# EAGLE library part ACOUSTICLIB_MICROSD (library LIBRARY)
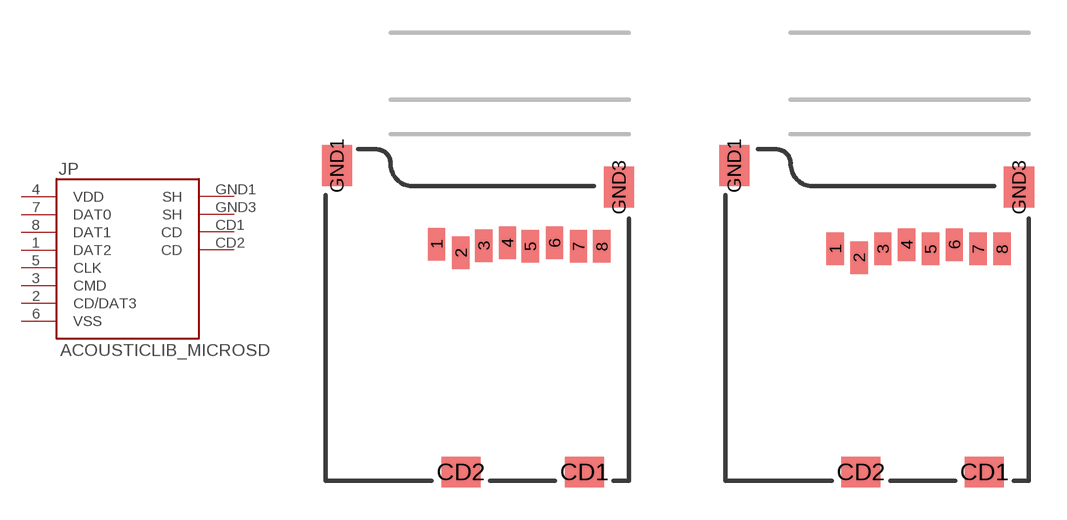
[diagram p4: symbol with the pads of ACOUSTICLIB_MICROSD_1:1; footprints ACOUSTICLIB_MICROSD_1:1, ACOUSTICLIB_MICRO-SD-SOCKET-PP]

Designator prefix JP

## ACOUSTICLIB_MICROSDIMPROVED?  [ACOUSTICLIB_MICROSD_1:1]
1  DAT2
2  CD/DAT3
3  CMD
4  VDD  pwr
5  CLK
6  VSS  pwr
7  DAT0
8  DAT1
CD1  CD
CD2  CD
GND1  SH
GND3  SH

## ACOUSTICLIB_MICROSDOTHER  [ACOUSTICLIB_MICRO-SD-SOCKET-PP]
Pads as for ACOUSTICLIB_MICROSD_1:1

## ACOUSTICLIB_MICROSDWE_PACK  [ACOUSTICLIB_693071010811]
1  DAT2
2  CD/DAT3
3  CMD
4  VDD  pwr
5  CLK
6  VSS  pwr
7  DAT0
8  DAT1
Z1  SH
Z2  SH
Z3  CD
Z4  CD

## Footprint ACOUSTICLIB_MICROSD_1:1 (pad centres in mm)
smd 0.8 x 1.5: 1 5.096,10.919; 2 6.218,10.519; 3 7.274,10.853; 4 8.367,10.982; 5 9.421,10.828; 6 10.539,10.973; 7 11.648,10.819; 8 12.721,10.819
smd 1.8 x 1.4: CD1 11.92,0.4; CD2 6.22,0.4
smd 1.4 x 1.9: GND1 0.497,14.55; GND3 13.52,13.55

## Footprint ACOUSTICLIB_MICRO-SD-SOCKET-PP (pad centres in mm)
smd 0.8 x 1.5: 1 -8.94,10.7; 2 -7.84,10.3; 3 -6.74,10.7; 4 -5.64,10.9; 5 -4.54,10.7; 6 -3.44,10.9; 7 -2.34,10.7; 8 -1.24,10.7
smd 1.8 x 1.4: CD1 -2.05,0.4; CD2 -7.75,0.4
smd 1.4 x 1.9: GND1 -13.6,14.55; GND3 -0.45,13.55

## Footprint ACOUSTICLIB_693071010811 (pad centres in mm)
WR-CRD MICRO SD CARD CONNECTOR PUSH & PUSH WITH CARD DETECTION 8PINS
smd 0.8 x 1.5: 1 0,0; 2 1.1,-0.4; 3 2.2,0; 4 3.3,0.2; 5 4.4,0; 6 5.5,0.2; 7 6.6,0; 8 7.7,0
smd 1.4 x 1.9: Z1 -4.66,3.85; Z2 8.49,2.7
smd 1.8 x 1.4: Z3 1.2,-10.3; Z4 6.89,-10.3